# Altium schematic symbol library 震动传感器.SchLib: 1 symbol
Pins are listed as number, name and electrical type; pins without a type are passive.

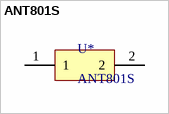
[diagram p0: symbol ANT801S]

## ANT801S
designator U*
footprint ANT801S (震动传感器)
pins: 1, 2